# Altium integrated library Analog Devices Operational Amplifiers.IntLib: 2102 symbols (part 8 of 70)
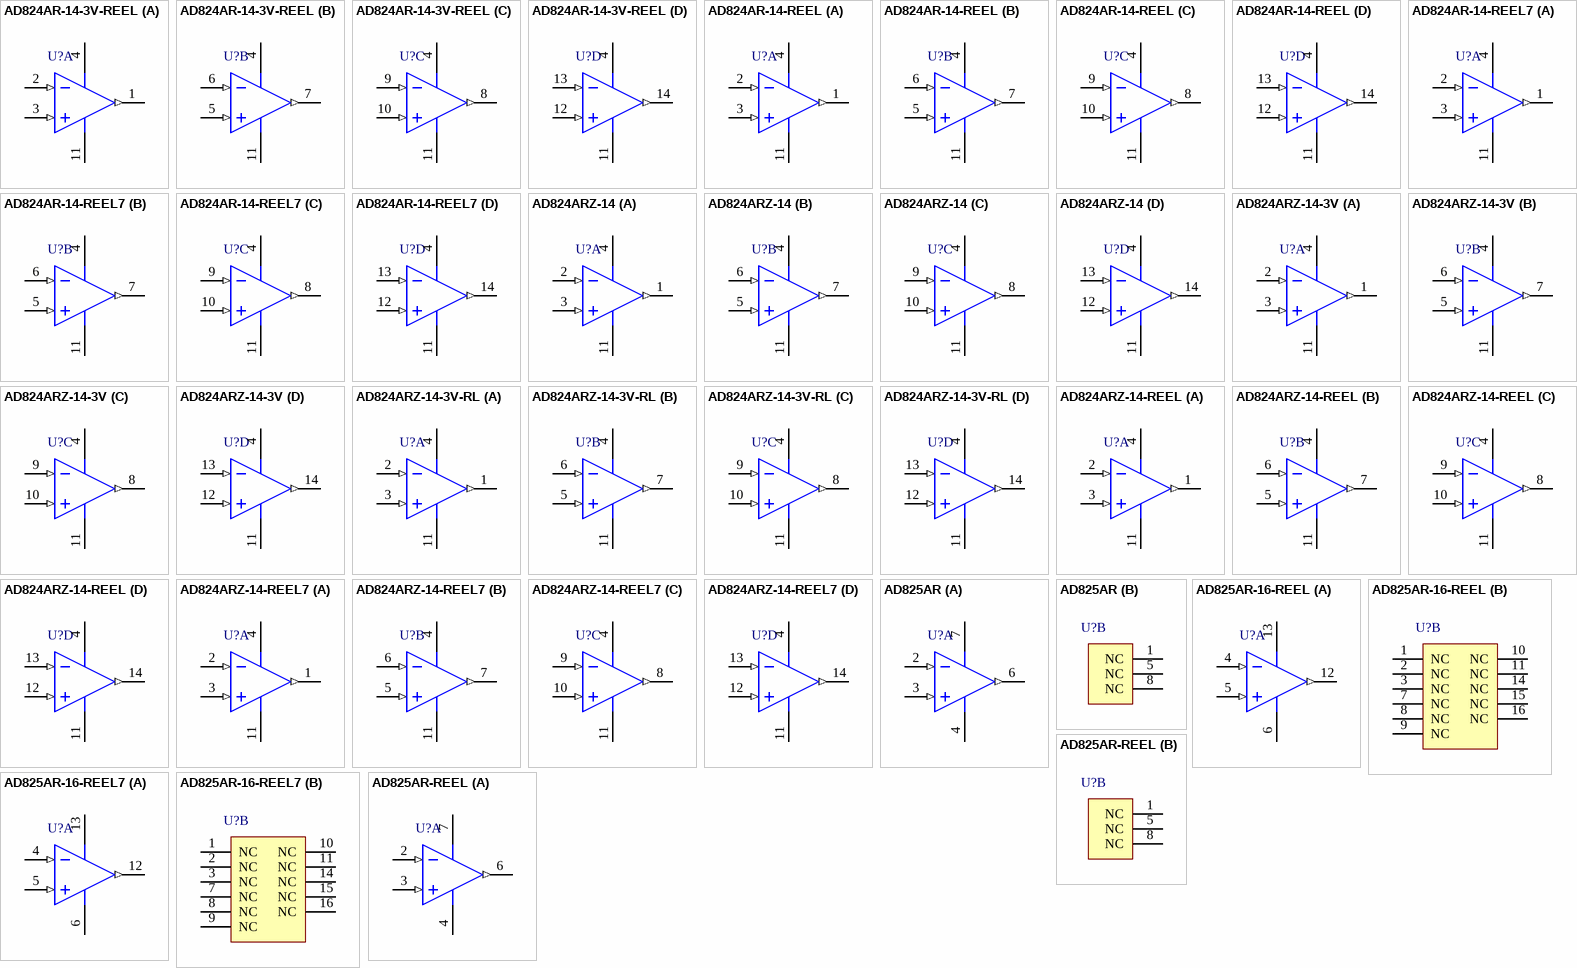
[diagram p121: symbols AD824AR-14-3V-REEL to AD825AR-REEL]

## AD824ARZ-14-REEL7
designator U?
Quad Channel Rail-to-Rail Operational Amplifier, 2 MHz BW, 2 V/us SR, Industrial, 14-pin SOIC (R-14), Reel; Generic Part Number: AD824; Manufacturer: Analog Devices; PartNumber: AD824ARZ-14-REEL7; Amplifiers Per Package: 4; Input Bias Current: 4pA; Input Offset Voltage: 500uV; Iq/Amp: 625uA; Slew Rate: 2V/us; Small Signal Bandwidth: 2MHz; V Span Max: 36V; V Span Min: 3V; DatasheetVersion: Rev. C; PackageVersion: 060606-A; PackageReference: R-14; PackageDescription: 14-Pin Standard Small Outline Package, Body 8.65 x 3.9 mm, Pitch 1.27 mm; Supplier 1: Digi-Key; Supplier Part Number 1: AD824ARZ-14-REEL7-ND; Supplier 2: Newark; Supplier Part Number 2: 59K6519; Mounting Technology: Surface Mount; Code_JEDEC: MS-012-AB; ComponentLink1Description: Manufacturer URL; ComponentLink1URL: http://www.analog.com/en/index.html; ComponentLink2Description: Datasheet; ComponentLink2URL: http://www.analog.com/static/imported-files/data_sheets/AD824.pdf; ComponentLink3Description: Package Specification; ComponentLink3URL: http://www.analog.com/static/imported-files/packages/PKG_PDF/SOIC_Narrow%20(R)/R_14.pdf
footprint ADI-R-14_N (SOIC, 14-Leads, Body 8.65x3.9mm, Pitch 1.27mm, IPC Medium Density)
footprint ADI-R-14_L (SOIC, 14-Leads, Body 8.65x3.9mm, Pitch 1.27mm, IPC High Density)
footprint ADI-R-14_M (SOIC, 14-Leads, Body 8.65x3.9mm, Pitch 1.27mm, IPC Low Density)
pins on every part: 4 +V (power), 11 -V (power)
part A pins: 1 OUT A (out), 2 -IN A (in), 3 +IN A (in)
part B pins: 5 +IN B (in), 6 -IN B (in), 7 OUT B (out)
part C pins: 8 OUT C (out), 9 -IN C (in), 10 +IN C (in)
part D pins: 12 +IN D (in), 13 -IN D (in), 14 OUT D (out)

## AD825AR
designator U?
Single Channel Low Distortion Operational Amplifier, 46 MHz BW, 140 V/us SR, Industrial, 8-pin SOIC (R-8), Tube; Generic Part Number: AD825; Manufacturer: Analog Devices; PartNumber: AD825AR; Amplifiers Per Package: 1; Input Bias Current: 10pA; Input Offset Voltage: 1mV; Iq/Amp: 7.2mA; Small Signal Bandwidth: 46MHz; V Span Max: 36V; V Span Min: 10V; DatasheetVersion: Rev. F; PackageVersion: 060506-A; PackageReference: R-8; PackageDescription: 8-Pin Standard Small Outline Package, Body 3.9 x 4.9 mm, Pitch 1.27 mm; Supplier 1: Digi-Key; Supplier Part Number 1: AD825AR-ND; Packing: Tube; Slew Rate: 140V/us; Mounting Technology: Surface Mount; Code_JEDEC: MS-012-AA; ComponentLink1Description: Manufacturer URL; ComponentLink1URL: http://www.analog.com/en/index.html; ComponentLink2Description: Datasheet; ComponentLink2URL: http://www.analog.com/static/imported-files/data_sheets/AD825.pdf; ComponentLink3Description: Package Specification; ComponentLink3URL: http://www.analog.com/static/imported-files/packages/PKG_PDF/SOIC_Narrow%20(R)/R_8.pdf
footprint ADI-R-8_N (SOIC, 8-Leads, Body 4.9x3.9mm, Pitch 1.27mm, IPC Medium Density)
footprint ADI-R-8_L (SOIC, 8-Leads, Body 4.9x3.9mm, Pitch 1.27mm, IPC High Density)
footprint ADI-R-8_M (SOIC, 8-Leads, Body 4.9x3.9mm, Pitch 1.27mm, IPC Low Density)
part A pins: 2 -IN (in), 3 +IN (in), 4 -VS (power), 6 OUT (out), 7 +VS (power)
part B pins: 1 NC, 5 NC, 8 NC

## AD825AR-16-REEL
designator U?
Single Channel Low Distortion Operational Amplifier, 46 MHz BW, 140 V/us SR, Industrial, 16-pin SOIC (RW-16), Reel; Generic Part Number: AD825; Manufacturer: Analog Devices; PartNumber: AD825AR-16-REEL; Amplifiers Per Package: 1; Input Bias Current: 10pA; Input Offset Voltage: 1mV; Iq/Amp: 7.2mA; Small Signal Bandwidth: 46MHz; V Span Max: 36V; V Span Min: 10V; DatasheetVersion: Rev. F; PackageVersion: 032707-B; PackageReference: RW-16; PackageDescription: 16-Pin Standard Small Outline Package, Body 10.3 x 7.5 mm, Pitch 1.27 mm; Supplier 1: Digi-Key; Supplier Part Number 1: AD825AR-16-REEL-ND; Packing: Reel; Slew Rate: 140V/us; Mounting Technology: Surface Mount; Code_JEDEC: MS-013-AA; ComponentLink1Description: Manufacturer URL; ComponentLink1URL: http://www.analog.com/en/index.html; ComponentLink2Description: Datasheet; ComponentLink2URL: http://www.analog.com/static/imported-files/data_sheets/AD825.pdf; ComponentLink3Description: Package Specification; ComponentLink3URL: http://www.analog.com/static/imported-files/packages/PKG_PDF/SOIC_WIDE%20%28RW%29/RW_16.pdf
footprint ADI-RW-16_N (SOIC, 16-Leads, Body 10.3x7.5mm, Pitch 1.27mm,IPC Medium Density)
footprint ADI-RW-16_L (SOIC, 16-Leads, Body 10.3x7.5mm, Pitch 1.27mm, IPC High Density)
footprint ADI-RW-16_M (SOIC, 16-Leads, Body 10.3x7.5mm, Pitch 1.27mm, IPC Low Density)
part A pins: 4 -IN (in), 5 +IN (in), 6 -VS (power), 12 OUT (out), 13 +VS (power)
part B pins: 1 NC, 2 NC, 3 NC, 7 NC, 8 NC, 9 NC, 10 NC, 11 NC, 14 NC, 15 NC, 16 NC

## AD825AR-16-REEL7
designator U?
Single Channel Low Distortion Operational Amplifier, 46 MHz BW, 140 V/us SR, Industrial, 16-pin SOIC (RW-16), Reel; Generic Part Number: AD825; Manufacturer: Analog Devices; PartNumber: AD825AR-16-REEL7; Amplifiers Per Package: 1; Input Bias Current: 10pA; Input Offset Voltage: 1mV; Iq/Amp: 7.2mA; Small Signal Bandwidth: 46MHz; V Span Max: 36V; V Span Min: 10V; DatasheetVersion: Rev. F; PackageVersion: 032707-B; PackageReference: RW-16; PackageDescription: 16-Pin Standard Small Outline Package, Body 10.3 x 7.5 mm, Pitch 1.27 mm; Supplier 1: Digi-Key; Supplier Part Number 1: AD825AR-16-REEL7-ND; Packing: Reel; Slew Rate: 140V/us; Mounting Technology: Surface Mount; Code_JEDEC: MS-013-AA; ComponentLink1Description: Manufacturer URL; ComponentLink1URL: http://www.analog.com/en/index.html; ComponentLink2Description: Datasheet; ComponentLink2URL: http://www.analog.com/static/imported-files/data_sheets/AD825.pdf; ComponentLink3Description: Package Specification; ComponentLink3URL: http://www.analog.com/static/imported-files/packages/PKG_PDF/SOIC_WIDE%20%28RW%29/RW_16.pdf
footprint ADI-RW-16_N (SOIC, 16-Leads, Body 10.3x7.5mm, Pitch 1.27mm,IPC Medium Density)
footprint ADI-RW-16_L (SOIC, 16-Leads, Body 10.3x7.5mm, Pitch 1.27mm, IPC High Density)
footprint ADI-RW-16_M (SOIC, 16-Leads, Body 10.3x7.5mm, Pitch 1.27mm, IPC Low Density)
part A pins: 4 -IN (in), 5 +IN (in), 6 -VS (power), 12 OUT (out), 13 +VS (power)
part B pins: 1 NC, 2 NC, 3 NC, 7 NC, 8 NC, 9 NC, 10 NC, 11 NC, 14 NC, 15 NC, 16 NC

## AD825AR-REEL
designator U?
Single Channel Low Distortion Operational Amplifier, 46 MHz BW, 140 V/us SR, Industrial, 8-pin SOIC (R-8), Reel; Generic Part Number: AD825; Manufacturer: Analog Devices; PartNumber: AD825AR-REEL; Amplifiers Per Package: 1; Input Bias Current: 10pA; Input Offset Voltage: 1mV; Iq/Amp: 7.2mA; Small Signal Bandwidth: 46MHz; V Span Max: 36V; V Span Min: 10V; DatasheetVersion: Rev. F; PackageVersion: 060506-A; PackageReference: R-8; PackageDescription: 8-Pin Standard Small Outline Package, Body 3.9 x 4.9 mm, Pitch 1.27 mm; Supplier 1: Digi-Key; Supplier Part Number 1: AD825AR-REEL-ND; Supplier 2: Newark; Supplier Part Number 2: 09B6518; Packing: Reel; Slew Rate: 140V/us; Mounting Technology: Surface Mount; Code_JEDEC: MS-012-AA; ComponentLink1Description: Manufacturer URL; ComponentLink1URL: http://www.analog.com/en/index.html; ComponentLink2Description: Datasheet; ComponentLink2URL: http://www.analog.com/static/imported-files/data_sheets/AD825.pdf; ComponentLink3Description: Package Specification; ComponentLink3URL: http://www.analog.com/static/imported-files/packages/PKG_PDF/SOIC_Narrow%20(R)/R_8.pdf
footprint ADI-R-8_N (SOIC, 8-Leads, Body 4.9x3.9mm, Pitch 1.27mm, IPC Medium Density)
footprint ADI-R-8_L (SOIC, 8-Leads, Body 4.9x3.9mm, Pitch 1.27mm, IPC High Density)
footprint ADI-R-8_M (SOIC, 8-Leads, Body 4.9x3.9mm, Pitch 1.27mm, IPC Low Density)
part A pins: 2 -IN (in), 3 +IN (in), 4 -VS (power), 6 OUT (out), 7 +VS (power)
part B pins: 1 NC, 5 NC, 8 NC

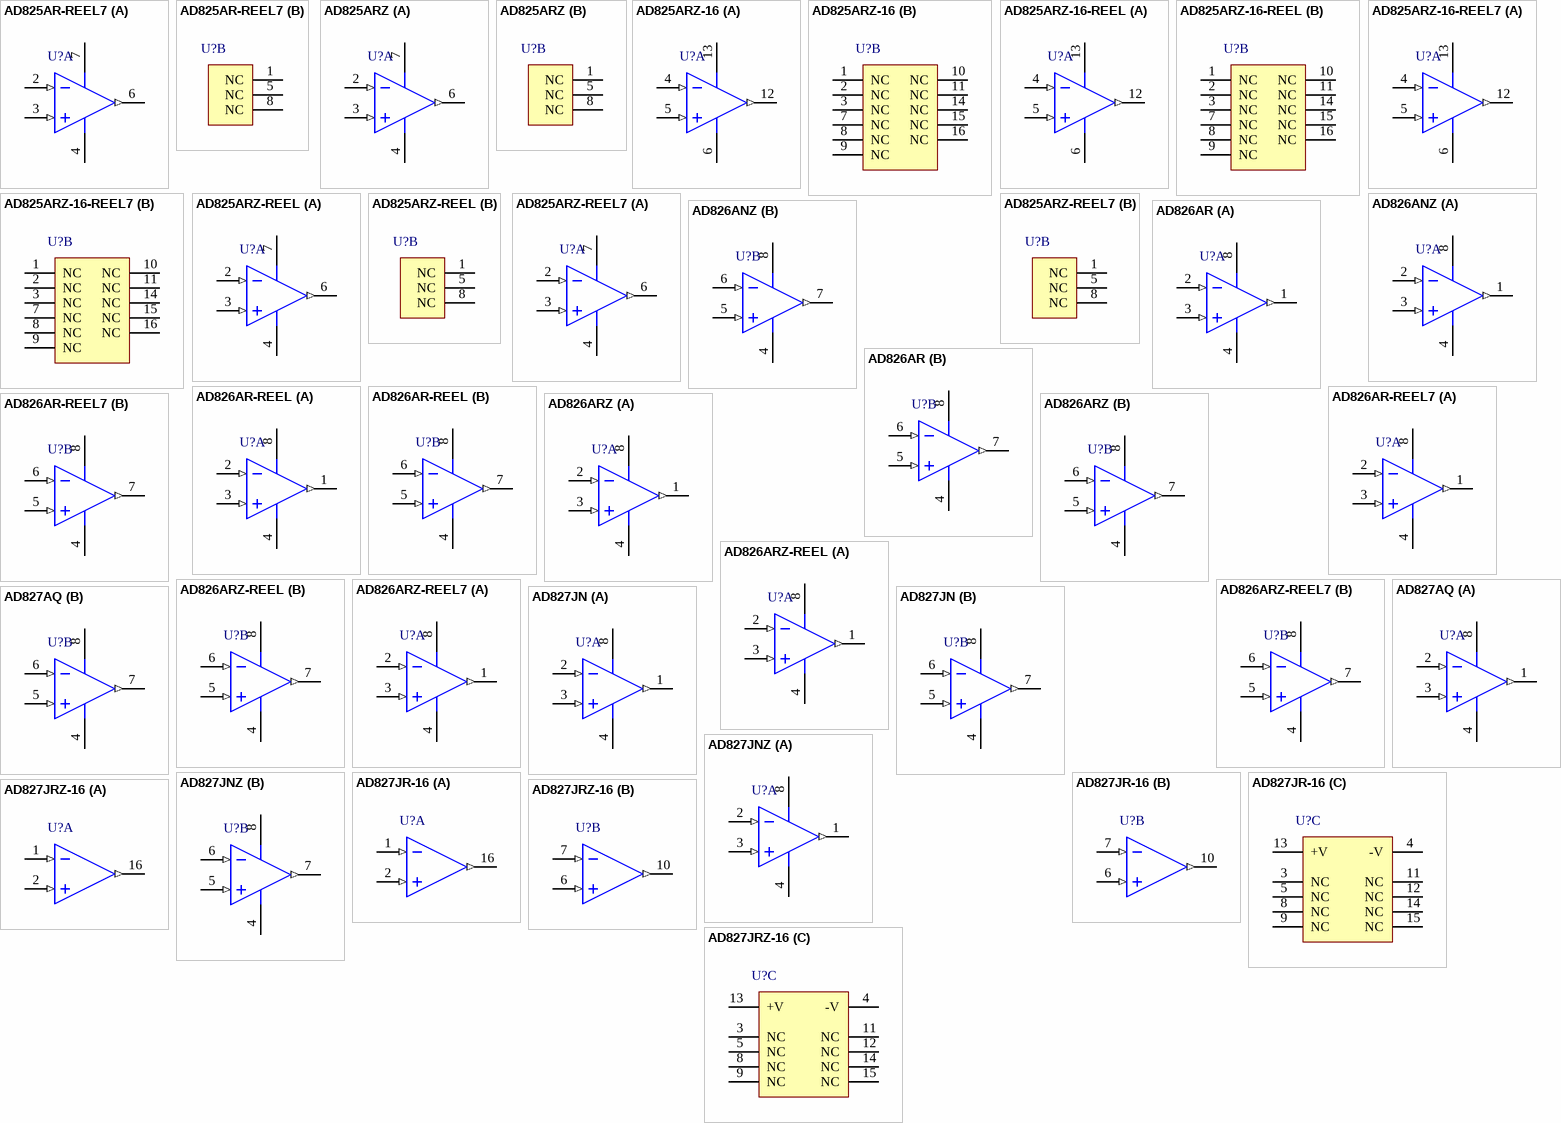
[diagram p12: symbols AD825AR-REEL7 to AD827JRZ-16]

## AD825AR-REEL7
designator U?
Single Channel Low Distortion Operational Amplifier, 46 MHz BW, 140 V/us SR, Industrial, 8-pin SOIC (R-8), Reel; Generic Part Number: AD825; Manufacturer: Analog Devices; PartNumber: AD825AR-REEL7; Amplifiers Per Package: 1; Input Bias Current: 10pA; Input Offset Voltage: 1mV; Iq/Amp: 7.2mA; Small Signal Bandwidth: 46MHz; V Span Max: 36V; V Span Min: 10V; DatasheetVersion: Rev. F; PackageVersion: 060506-A; PackageReference: R-8; PackageDescription: 8-Pin Standard Small Outline Package, Body 3.9 x 4.9 mm, Pitch 1.27 mm; Supplier 1: Digi-Key; Supplier Part Number 1: AD825AR-REEL7-ND; Supplier 2: Newark; Supplier Part Number 2: 09B6519; Packing: Reel; Slew Rate: 140V/us; Mounting Technology: Surface Mount; Code_JEDEC: MS-012-AA; ComponentLink1Description: Manufacturer URL; ComponentLink1URL: http://www.analog.com/en/index.html; ComponentLink2Description: Datasheet; ComponentLink2URL: http://www.analog.com/static/imported-files/data_sheets/AD825.pdf; ComponentLink3Description: Package Specification; ComponentLink3URL: http://www.analog.com/static/imported-files/packages/PKG_PDF/SOIC_Narrow%20(R)/R_8.pdf
footprint ADI-R-8_N (SOIC, 8-Leads, Body 4.9x3.9mm, Pitch 1.27mm, IPC Medium Density)
footprint ADI-R-8_L (SOIC, 8-Leads, Body 4.9x3.9mm, Pitch 1.27mm, IPC High Density)
footprint ADI-R-8_M (SOIC, 8-Leads, Body 4.9x3.9mm, Pitch 1.27mm, IPC Low Density)
part A pins: 2 -IN (in), 3 +IN (in), 4 -VS (power), 6 OUT (out), 7 +VS (power)
part B pins: 1 NC, 5 NC, 8 NC

## AD825ARZ
designator U?
Single Channel Low Distortion Operational Amplifier, 46 MHz BW, 140 V/us SR, Industrial, 8-pin SOIC (R-8), Tube; Generic Part Number: AD825; Manufacturer: Analog Devices; PartNumber: AD825ARZ; Amplifiers Per Package: 1; Input Bias Current: 10pA; Input Offset Voltage: 1mV; Iq/Amp: 7.2mA; Small Signal Bandwidth: 46MHz; V Span Max: 36V; V Span Min: 10V; DatasheetVersion: Rev. F; PackageVersion: 060506-A; PackageReference: R-8; PackageDescription: 8-Pin Standard Small Outline Package, Body 3.9 x 4.9 mm, Pitch 1.27 mm; Supplier 1: Digi-Key; Supplier Part Number 1: AD825ARZ-ND; Supplier 2: Farnell; Supplier Part Number 2: 9603735; Supplier 3: Newark; Supplier Part Number 3: 59K6528; Packing: Tube; Slew Rate: 140V/us; Mounting Technology: Surface Mount; Code_JEDEC: MS-012-AA; ComponentLink1Description: Manufacturer URL; ComponentLink1URL: http://www.analog.com/en/index.html; ComponentLink2Description: Datasheet; ComponentLink2URL: http://www.analog.com/static/imported-files/data_sheets/AD825.pdf; ComponentLink3Description: Package Specification; ComponentLink3URL: http://www.analog.com/static/imported-files/packages/PKG_PDF/SOIC_Narrow%20(R)/R_8.pdf
footprint ADI-R-8_N (SOIC, 8-Leads, Body 4.9x3.9mm, Pitch 1.27mm, IPC Medium Density)
footprint ADI-R-8_L (SOIC, 8-Leads, Body 4.9x3.9mm, Pitch 1.27mm, IPC High Density)
footprint ADI-R-8_M (SOIC, 8-Leads, Body 4.9x3.9mm, Pitch 1.27mm, IPC Low Density)
part A pins: 2 -IN (in), 3 +IN (in), 4 -VS (power), 6 OUT (out), 7 +VS (power)
part B pins: 1 NC, 5 NC, 8 NC

## AD825ARZ-16
designator U?
Single Channel Low Distortion Operational Amplifier, 46 MHz BW, 140 V/us SR, Industrial, 16-pin SOIC (RW-16), Tube; Generic Part Number: AD825; Manufacturer: Analog Devices; PartNumber: AD825ARZ-16; Amplifiers Per Package: 1; Input Bias Current: 10pA; Input Offset Voltage: 1mV; Iq/Amp: 7.2mA; Small Signal Bandwidth: 46MHz; V Span Max: 36V; V Span Min: 10V; DatasheetVersion: Rev. F; PackageVersion: 032707-B; PackageReference: RW-16; PackageDescription: 16-Pin Standard Small Outline Package, Body 10.3 x 7.5 mm, Pitch 1.27 mm; Supplier 1: Digi-Key; Supplier Part Number 1: AD825ARZ-16-ND; Packing: Tube; Slew Rate: 140V/us; Mounting Technology: Surface Mount; Code_JEDEC: MS-013-AA; ComponentLink1Description: Manufacturer URL; ComponentLink1URL: http://www.analog.com/en/index.html; ComponentLink2Description: Datasheet; ComponentLink2URL: http://www.analog.com/static/imported-files/data_sheets/AD825.pdf; ComponentLink3Description: Package Specification; ComponentLink3URL: http://www.analog.com/static/imported-files/packages/PKG_PDF/SOIC_WIDE%20%28RW%29/RW_16.pdf
footprint ADI-RW-16_N (SOIC, 16-Leads, Body 10.3x7.5mm, Pitch 1.27mm,IPC Medium Density)
footprint ADI-RW-16_L (SOIC, 16-Leads, Body 10.3x7.5mm, Pitch 1.27mm, IPC High Density)
footprint ADI-RW-16_M (SOIC, 16-Leads, Body 10.3x7.5mm, Pitch 1.27mm, IPC Low Density)
part A pins: 4 -IN (in), 5 +IN (in), 6 -VS (power), 12 OUT (out), 13 +VS (power)
part B pins: 1 NC, 2 NC, 3 NC, 7 NC, 8 NC, 9 NC, 10 NC, 11 NC, 14 NC, 15 NC, 16 NC

## AD825ARZ-16-REEL
designator U?
Single Channel Low Distortion Operational Amplifier, 46 MHz BW, 140 V/us SR, Industrial, 16-pin SOIC (RW-16), Reel; Generic Part Number: AD825; Manufacturer: Analog Devices; PartNumber: AD825ARZ-16-REEL; Amplifiers Per Package: 1; Input Bias Current: 10pA; Input Offset Voltage: 1mV; Iq/Amp: 7.2mA; Small Signal Bandwidth: 46MHz; V Span Max: 36V; V Span Min: 10V; DatasheetVersion: Rev. F; PackageVersion: 032707-B; PackageReference: RW-16; PackageDescription: 16-Pin Standard Small Outline Package, Body 10.3 x 7.5 mm, Pitch 1.27 mm; Supplier 1: Digi-Key; Supplier Part Number 1: AD825ARZ-16-REEL-ND; Packing: Reel; Slew Rate: 140V/us; Mounting Technology: Surface Mount; Code_JEDEC: MS-013-AA; ComponentLink1Description: Manufacturer URL; ComponentLink1URL: http://www.analog.com/en/index.html; ComponentLink2Description: Datasheet; ComponentLink2URL: http://www.analog.com/static/imported-files/data_sheets/AD825.pdf; ComponentLink3Description: Package Specification; ComponentLink3URL: http://www.analog.com/static/imported-files/packages/PKG_PDF/SOIC_WIDE%20%28RW%29/RW_16.pdf
footprint ADI-RW-16_N (SOIC, 16-Leads, Body 10.3x7.5mm, Pitch 1.27mm,IPC Medium Density)
footprint ADI-RW-16_L (SOIC, 16-Leads, Body 10.3x7.5mm, Pitch 1.27mm, IPC High Density)
footprint ADI-RW-16_M (SOIC, 16-Leads, Body 10.3x7.5mm, Pitch 1.27mm, IPC Low Density)
part A pins: 4 -IN (in), 5 +IN (in), 6 -VS (power), 12 OUT (out), 13 +VS (power)
part B pins: 1 NC, 2 NC, 3 NC, 7 NC, 8 NC, 9 NC, 10 NC, 11 NC, 14 NC, 15 NC, 16 NC

## AD825ARZ-16-REEL7
designator U?
Single Channel Low Distortion Operational Amplifier, 46 MHz BW, 140 V/us SR, Industrial, 16-pin SOIC (RW-16), Reel; Generic Part Number: AD825; Manufacturer: Analog Devices; PartNumber: AD825ARZ-16-REEL7; Amplifiers Per Package: 1; Input Bias Current: 10pA; Input Offset Voltage: 1mV; Iq/Amp: 7.2mA; Small Signal Bandwidth: 46MHz; V Span Max: 36V; V Span Min: 10V; DatasheetVersion: Rev. F; PackageVersion: 032707-B; PackageReference: RW-16; PackageDescription: 16-Pin Standard Small Outline Package, Body 10.3 x 7.5 mm, Pitch 1.27 mm; Supplier 1: Digi-Key; Supplier Part Number 1: AD825ARZ-16-REEL7-ND; Packing: Reel; Slew Rate: 140V/us; Mounting Technology: Surface Mount; Code_JEDEC: MS-013-AA; ComponentLink1Description: Manufacturer URL; ComponentLink1URL: http://www.analog.com/en/index.html; ComponentLink2Description: Datasheet; ComponentLink2URL: http://www.analog.com/static/imported-files/data_sheets/AD825.pdf; ComponentLink3Description: Package Specification; ComponentLink3URL: http://www.analog.com/static/imported-files/packages/PKG_PDF/SOIC_WIDE%20%28RW%29/RW_16.pdf
footprint ADI-RW-16_N (SOIC, 16-Leads, Body 10.3x7.5mm, Pitch 1.27mm,IPC Medium Density)
footprint ADI-RW-16_L (SOIC, 16-Leads, Body 10.3x7.5mm, Pitch 1.27mm, IPC High Density)
footprint ADI-RW-16_M (SOIC, 16-Leads, Body 10.3x7.5mm, Pitch 1.27mm, IPC Low Density)
part A pins: 4 -IN (in), 5 +IN (in), 6 -VS (power), 12 OUT (out), 13 +VS (power)
part B pins: 1 NC, 2 NC, 3 NC, 7 NC, 8 NC, 9 NC, 10 NC, 11 NC, 14 NC, 15 NC, 16 NC

## AD825ARZ-REEL
designator U?
Single Channel Low Distortion Operational Amplifier, 46 MHz BW, 140 V/us SR, Industrial, 8-pin SOIC (R-8), Reel; Generic Part Number: AD825; Manufacturer: Analog Devices; PartNumber: AD825ARZ-REEL; Amplifiers Per Package: 1; Input Bias Current: 10pA; Input Offset Voltage: 1mV; Iq/Amp: 7.2mA; Small Signal Bandwidth: 46MHz; V Span Max: 36V; V Span Min: 10V; DatasheetVersion: Rev. F; PackageVersion: 060506-A; PackageReference: R-8; PackageDescription: 8-Pin Standard Small Outline Package, Body 3.9 x 4.9 mm, Pitch 1.27 mm; Supplier 1: Digi-Key; Supplier Part Number 1: AD825ARZ-REEL-ND; Packing: Reel; Slew Rate: 140V/us; Mounting Technology: Surface Mount; Code_JEDEC: MS-012-AA; ComponentLink1Description: Manufacturer URL; ComponentLink1URL: http://www.analog.com/en/index.html; ComponentLink2Description: Datasheet; ComponentLink2URL: http://www.analog.com/static/imported-files/data_sheets/AD825.pdf; ComponentLink3Description: Package Specification; ComponentLink3URL: http://www.analog.com/static/imported-files/packages/PKG_PDF/SOIC_Narrow%20(R)/R_8.pdf
footprint ADI-R-8_N (SOIC, 8-Leads, Body 4.9x3.9mm, Pitch 1.27mm, IPC Medium Density)
footprint ADI-R-8_L (SOIC, 8-Leads, Body 4.9x3.9mm, Pitch 1.27mm, IPC High Density)
footprint ADI-R-8_M (SOIC, 8-Leads, Body 4.9x3.9mm, Pitch 1.27mm, IPC Low Density)
part A pins: 2 -IN (in), 3 +IN (in), 4 -VS (power), 6 OUT (out), 7 +VS (power)
part B pins: 1 NC, 5 NC, 8 NC

## AD825ARZ-REEL7
designator U?
Single Channel Low Distortion Operational Amplifier, 46 MHz BW, 140 V/us SR, Industrial, 8-pin SOIC (R-8), Reel; Generic Part Number: AD825; Manufacturer: Analog Devices; PartNumber: AD825ARZ-REEL7; Amplifiers Per Package: 1; Input Bias Current: 10pA; Input Offset Voltage: 1mV; Iq/Amp: 7.2mA; Small Signal Bandwidth: 46MHz; V Span Max: 36V; V Span Min: 10V; DatasheetVersion: Rev. F; PackageVersion: 060506-A; PackageReference: R-8; PackageDescription: 8-Pin Standard Small Outline Package, Body 3.9 x 4.9 mm, Pitch 1.27 mm; Supplier 1: Digi-Key; Supplier Part Number 1: AD825ARZ-REEL7-ND; Supplier 2: Newark; Supplier Part Number 2: 68H9063; Packing: Reel; Slew Rate: 140V/us; Mounting Technology: Surface Mount; Code_JEDEC: MS-012-AA; ComponentLink1Description: Manufacturer URL; ComponentLink1URL: http://www.analog.com/en/index.html; ComponentLink2Description: Datasheet; ComponentLink2URL: http://www.analog.com/static/imported-files/data_sheets/AD825.pdf; ComponentLink3Description: Package Specification; ComponentLink3URL: http://www.analog.com/static/imported-files/packages/PKG_PDF/SOIC_Narrow%20(R)/R_8.pdf
footprint ADI-R-8_N (SOIC, 8-Leads, Body 4.9x3.9mm, Pitch 1.27mm, IPC Medium Density)
footprint ADI-R-8_L (SOIC, 8-Leads, Body 4.9x3.9mm, Pitch 1.27mm, IPC High Density)
footprint ADI-R-8_M (SOIC, 8-Leads, Body 4.9x3.9mm, Pitch 1.27mm, IPC Low Density)
part A pins: 2 -IN (in), 3 +IN (in), 4 -VS (power), 6 OUT (out), 7 +VS (power)
part B pins: 1 NC, 5 NC, 8 NC

## AD826ANZ
designator U?
Double Channel Low Power Operational Amplifier, 50 MHz BW, 350 V/us SR, Industrial, 8-pin DIP (N-8), Tube; Generic Part Number: AD826; Manufacturer: Analog Devices; PartNumber: AD826ANZ; Amplifiers Per Package: 2; Input Bias Current: 3.3uA; Input Offset Voltage: 500uV; Iq/Amp: 7.5mA; Small Signal Bandwidth: 50MHz; V Span Max: 36V; V Span Min: 5V; DatasheetVersion: Rev. C; PackageVersion: 070606-A; PackageReference: N-8; PackageDescription: 8-Pin Plastic Dual In-Line Package, Row spacing 7.62 mm, Pitch 2.54 mm; Supplier 1: Digi-Key; Supplier Part Number 1: AD826ANZ-ND; Supplier 2: Farnell; Supplier Part Number 2: 1438583; Supplier 3: Newark; Supplier Part Number 3: 59K6530; Slew Rate: 350V/us; Mounting Technology: Through Hole; Code_JEDEC: MS-001; ComponentLink1Description: Manufacturer URL; ComponentLink1URL: http://www.analog.com/en/index.html; ComponentLink2Description: Datasheet; ComponentLink2URL: http://www.analog.com/static/imported-files/data_sheets/AD826.pdf; ComponentLink3Description: Package Specification; ComponentLink3URL: http:/www.analog.com/static/imported-files/packages/PKG_PDF/PDIP(N)/N_8.pdf
footprint ADI-N-8 (DIP, 8-Leads, Body 9.59x6.6mm, Pitch 2.54mm)
pins on every part: 4 -V (power), 8 +V (power)
part A pins: 1 OUT 1 (out), 2 -IN 1 (in), 3 +IN 1 (in)
part B pins: 5 +IN 2 (in), 6 -IN 2 (in), 7 OUT 2 (out)

## AD826AR
designator U?
Double Channel Low Power Operational Amplifier, 50 MHz BW, 350 V/us SR, Industrial, 8-pin SOIC (R-8), Tube; Generic Part Number: AD826; Manufacturer: Analog Devices; PartNumber: AD826AR; Amplifiers Per Package: 2; Input Bias Current: 3.3uA; Input Offset Voltage: 500uV; Iq/Amp: 7.5mA; Small Signal Bandwidth: 50MHz; V Span Max: 36V; V Span Min: 5V; DatasheetVersion: Rev. C; PackageVersion: 060506-A; PackageReference: R-8; PackageDescription: 8-Pin Standard Small Outline Package, Body 3.9 x 4.9 mm, Pitch 1.27 mm; Supplier 1: Digi-Key; Supplier Part Number 1: AD826AR-ND; Slew Rate: 350V/us; Mounting Technology: Surface Mount; Code_JEDEC: MS-012-AA; ComponentLink1Description: Manufacturer URL; ComponentLink1URL: http://www.analog.com/en/index.html; ComponentLink2Description: Datasheet; ComponentLink2URL: http://www.analog.com/static/imported-files/data_sheets/AD826.pdf; ComponentLink3Description: Package Specification; ComponentLink3URL: http://www.analog.com/static/imported-files/packages/PKG_PDF/SOIC_Narrow%20(R)/R_8.pdf
footprint ADI-R-8_N (SOIC, 8-Leads, Body 4.9x3.9mm, Pitch 1.27mm, IPC Medium Density)
footprint ADI-R-8_L (SOIC, 8-Leads, Body 4.9x3.9mm, Pitch 1.27mm, IPC High Density)
footprint ADI-R-8_M (SOIC, 8-Leads, Body 4.9x3.9mm, Pitch 1.27mm, IPC Low Density)
pins on every part: 4 -V (power), 8 +V (power)
part A pins: 1 OUT 1 (out), 2 -IN 1 (in), 3 +IN 1 (in)
part B pins: 5 +IN 2 (in), 6 -IN 2 (in), 7 OUT 2 (out)

## AD826AR-REEL
designator U?
Double Channel Low Power Operational Amplifier, 50 MHz BW, 350 V/us SR, Industrial, 8-pin SOIC (R-8), Reel; Generic Part Number: AD826; Manufacturer: Analog Devices; PartNumber: AD826AR-REEL; Amplifiers Per Package: 2; Input Bias Current: 3.3uA; Input Offset Voltage: 500uV; Iq/Amp: 7.5mA; Small Signal Bandwidth: 50MHz; V Span Max: 36V; V Span Min: 5V; DatasheetVersion: Rev. C; PackageVersion: 060506-A; PackageReference: R-8; PackageDescription: 8-Pin Standard Small Outline Package, Body 3.9 x 4.9 mm, Pitch 1.27 mm; Supplier 1: Digi-Key; Supplier Part Number 1: AD826AR-REEL-ND; Supplier 2: Newark; Supplier Part Number 2: 09B6520; Slew Rate: 350V/us; Mounting Technology: Surface Mount; Code_JEDEC: MS-012-AA; ComponentLink1Description: Manufacturer URL; ComponentLink1URL: http://www.analog.com/en/index.html; ComponentLink2Description: Datasheet; ComponentLink2URL: http://www.analog.com/static/imported-files/data_sheets/AD826.pdf; ComponentLink3Description: Package Specification; ComponentLink3URL: http://www.analog.com/static/imported-files/packages/PKG_PDF/SOIC_Narrow%20(R)/R_8.pdf
footprint ADI-R-8_N (SOIC, 8-Leads, Body 4.9x3.9mm, Pitch 1.27mm, IPC Medium Density)
footprint ADI-R-8_L (SOIC, 8-Leads, Body 4.9x3.9mm, Pitch 1.27mm, IPC High Density)
footprint ADI-R-8_M (SOIC, 8-Leads, Body 4.9x3.9mm, Pitch 1.27mm, IPC Low Density)
pins on every part: 4 -V (power), 8 +V (power)
part A pins: 1 OUT 1 (out), 2 -IN 1 (in), 3 +IN 1 (in)
part B pins: 5 +IN 2 (in), 6 -IN 2 (in), 7 OUT 2 (out)

## AD826AR-REEL7
designator U?
Double Channel Low Power Operational Amplifier, 50 MHz BW, 350 V/us SR, Industrial, 8-pin SOIC (R-8), Reel; Generic Part Number: AD826; Manufacturer: Analog Devices; PartNumber: AD826AR-REEL7; Amplifiers Per Package: 2; Input Bias Current: 3.3uA; Input Offset Voltage: 500uV; Iq/Amp: 7.5mA; Small Signal Bandwidth: 50MHz; V Span Max: 36V; V Span Min: 5V; DatasheetVersion: Rev. C; PackageVersion: 060506-A; PackageReference: R-8; PackageDescription: 8-Pin Standard Small Outline Package, Body 3.9 x 4.9 mm, Pitch 1.27 mm; Supplier 1: Digi-Key; Supplier Part Number 1: AD826AR-REEL7TR-ND; Supplier 2: Digi-Key; Supplier Part Number 2: AD826AR-REEL7CT-ND; Supplier 3: Digi-Key; Supplier Part Number 3: AD826AR-REEL7DKR-ND; Supplier 4: Newark; Supplier Part Number 4: 09B6521; Slew Rate: 350V/us; Mounting Technology: Surface Mount; Code_JEDEC: MS-012-AA; ComponentLink1Description: Manufacturer URL; ComponentLink1URL: http://www.analog.com/en/index.html; ComponentLink2Description: Datasheet; ComponentLink2URL: http://www.analog.com/static/imported-files/data_sheets/AD826.pdf; ComponentLink3Description: Package Specification; ComponentLink3URL: http://www.analog.com/static/imported-files/packages/PKG_PDF/SOIC_Narrow%20(R)/R_8.pdf
footprint ADI-R-8_N (SOIC, 8-Leads, Body 4.9x3.9mm, Pitch 1.27mm, IPC Medium Density)
footprint ADI-R-8_L (SOIC, 8-Leads, Body 4.9x3.9mm, Pitch 1.27mm, IPC High Density)
footprint ADI-R-8_M (SOIC, 8-Leads, Body 4.9x3.9mm, Pitch 1.27mm, IPC Low Density)
pins on every part: 4 -V (power), 8 +V (power)
part A pins: 1 OUT 1 (out), 2 -IN 1 (in), 3 +IN 1 (in)
part B pins: 5 +IN 2 (in), 6 -IN 2 (in), 7 OUT 2 (out)

## AD826ARZ
designator U?
Double Channel Low Power Operational Amplifier, 50 MHz BW, 350 V/us SR, Industrial, 8-pin SOIC (R-8), Tube; Generic Part Number: AD826; Manufacturer: Analog Devices; PartNumber: AD826ARZ; Amplifiers Per Package: 2; Input Bias Current: 3.3uA; Input Offset Voltage: 500uV; Iq/Amp: 7.5mA; Small Signal Bandwidth: 50MHz; V Span Max: 36V; V Span Min: 5V; DatasheetVersion: Rev. C; PackageVersion: 060506-A; PackageReference: R-8; PackageDescription: 8-Pin Standard Small Outline Package, Body 3.9 x 4.9 mm, Pitch 1.27 mm; Supplier 1: Digi-Key; Supplier Part Number 1: AD826ARZ-ND; Supplier 2: Farnell; Supplier Part Number 2: 1651291; Supplier 3: Farnell; Supplier Part Number 3: 1311619; Supplier 4: Newark; Supplier Part Number 4: 82H2995; Slew Rate: 350V/us; Mounting Technology: Surface Mount; Code_JEDEC: MS-012-AA; ComponentLink1Description: Manufacturer URL; ComponentLink1URL: http://www.analog.com/en/index.html; ComponentLink2Description: Datasheet; ComponentLink2URL: http://www.analog.com/static/imported-files/data_sheets/AD826.pdf; ComponentLink3Description: Package Specification; ComponentLink3URL: http://www.analog.com/static/imported-files/packages/PKG_PDF/SOIC_Narrow%20(R)/R_8.pdf
footprint ADI-R-8_N (SOIC, 8-Leads, Body 4.9x3.9mm, Pitch 1.27mm, IPC Medium Density)
footprint ADI-R-8_L (SOIC, 8-Leads, Body 4.9x3.9mm, Pitch 1.27mm, IPC High Density)
footprint ADI-R-8_M (SOIC, 8-Leads, Body 4.9x3.9mm, Pitch 1.27mm, IPC Low Density)
pins on every part: 4 -V (power), 8 +V (power)
part A pins: 1 OUT 1 (out), 2 -IN 1 (in), 3 +IN 1 (in)
part B pins: 5 +IN 2 (in), 6 -IN 2 (in), 7 OUT 2 (out)

## AD826ARZ-REEL
designator U?
Double Channel Low Power Operational Amplifier, 50 MHz BW, 350 V/us SR, Industrial, 8-pin SOIC (R-8), Reel; Generic Part Number: AD826; Manufacturer: Analog Devices; PartNumber: AD826ARZ-REEL; Amplifiers Per Package: 2; Input Bias Current: 3.3uA; Input Offset Voltage: 500uV; Iq/Amp: 7.5mA; Small Signal Bandwidth: 50MHz; V Span Max: 36V; V Span Min: 5V; DatasheetVersion: Rev. C; PackageVersion: 060506-A; PackageReference: R-8; PackageDescription: 8-Pin Standard Small Outline Package, Body 3.9 x 4.9 mm, Pitch 1.27 mm; Supplier 1: Digi-Key; Supplier Part Number 1: AD826ARZ-REEL-ND; Supplier 2: Newark; Supplier Part Number 2: 82H2996; Slew Rate: 350V/us; Mounting Technology: Surface Mount; Code_JEDEC: MS-012-AA; ComponentLink1Description: Manufacturer URL; ComponentLink1URL: http://www.analog.com/en/index.html; ComponentLink2Description: Datasheet; ComponentLink2URL: http://www.analog.com/static/imported-files/data_sheets/AD826.pdf; ComponentLink3Description: Package Specification; ComponentLink3URL: http://www.analog.com/static/imported-files/packages/PKG_PDF/SOIC_Narrow%20(R)/R_8.pdf
footprint ADI-R-8_N (SOIC, 8-Leads, Body 4.9x3.9mm, Pitch 1.27mm, IPC Medium Density)
footprint ADI-R-8_L (SOIC, 8-Leads, Body 4.9x3.9mm, Pitch 1.27mm, IPC High Density)
footprint ADI-R-8_M (SOIC, 8-Leads, Body 4.9x3.9mm, Pitch 1.27mm, IPC Low Density)
pins on every part: 4 -V (power), 8 +V (power)
part A pins: 1 OUT 1 (out), 2 -IN 1 (in), 3 +IN 1 (in)
part B pins: 5 +IN 2 (in), 6 -IN 2 (in), 7 OUT 2 (out)

## AD826ARZ-REEL7
designator U?
Double Channel Low Power Operational Amplifier, 50 MHz BW, 350 V/us SR, Industrial, 8-pin SOIC (R-8), Reel; Generic Part Number: AD826; Manufacturer: Analog Devices; PartNumber: AD826ARZ-REEL7; Amplifiers Per Package: 2; Input Bias Current: 3.3uA; Input Offset Voltage: 500uV; Iq/Amp: 7.5mA; Small Signal Bandwidth: 50MHz; V Span Max: 36V; V Span Min: 5V; DatasheetVersion: Rev. C; PackageVersion: 060506-A; PackageReference: R-8; PackageDescription: 8-Pin Standard Small Outline Package, Body 3.9 x 4.9 mm, Pitch 1.27 mm; Supplier 1: Digi-Key; Supplier Part Number 1: AD826ARZ-REEL7TR-ND; Supplier 2: Digi-Key; Supplier Part Number 2: AD826ARZ-REEL7CT-ND; Supplier 3: Digi-Key; Supplier Part Number 3: AD826ARZ-REEL7DKR-ND; Supplier 4: Newark; Supplier Part Number 4: 82H2997; Slew Rate: 350V/us; Mounting Technology: Surface Mount; Code_JEDEC: MS-012-AA; ComponentLink1Description: Manufacturer URL; ComponentLink1URL: http://www.analog.com/en/index.html; ComponentLink2Description: Datasheet; ComponentLink2URL: http://www.analog.com/static/imported-files/data_sheets/AD826.pdf; ComponentLink3Description: Package Specification; ComponentLink3URL: http://www.analog.com/static/imported-files/packages/PKG_PDF/SOIC_Narrow%20(R)/R_8.pdf
footprint ADI-R-8_N (SOIC, 8-Leads, Body 4.9x3.9mm, Pitch 1.27mm, IPC Medium Density)
footprint ADI-R-8_L (SOIC, 8-Leads, Body 4.9x3.9mm, Pitch 1.27mm, IPC High Density)
footprint ADI-R-8_M (SOIC, 8-Leads, Body 4.9x3.9mm, Pitch 1.27mm, IPC Low Density)
pins on every part: 4 -V (power), 8 +V (power)
part A pins: 1 OUT 1 (out), 2 -IN 1 (in), 3 +IN 1 (in)
part B pins: 5 +IN 2 (in), 6 -IN 2 (in), 7 OUT 2 (out)

## AD827AQ
designator U?
Double Channel Low Power Operational Amplifier, 50 MHz BW, 300 V/us SR, Industrial, 8-pin DIP (Q-8), Tube; Generic Part Number: AD827; Manufacturer: Analog Devices; PartNumber: AD827AQ; Amplifiers Per Package: 2; Input Bias Current: 3.3uA; Input Offset Voltage: 500uV; Iq/Amp: 6.75mA; Small Signal Bandwidth: 50MHz; V Span Max: 36V; V Span Min: 9V; DatasheetVersion: Rev. C; PackageReference: Q-8; PackageDescription: 8-Pin Ceramic Dual In-Line Package, Row spacing 7.62 mm, Pitch 2.54 mm; Supplier 1: Digi-Key; Supplier Part Number 1: AD827AQ-ND; Supplier 2: Newark; Supplier Part Number 2: 09B6522; Packing: Tube; Slew Rate: 300V/us; Mounting Technology: Through Hole; ComponentLink1Description: Manufacturer URL; ComponentLink1URL: http://www.analog.com/en/index.html; ComponentLink2Description: Datasheet; ComponentLink2URL: http://www.analog.com/static/imported-files/data_sheets/AD827.pdf; ComponentLink3Description: Package Specification; ComponentLink3URL: http://www.analog.com/static/imported-files/packages/3925655241313314758Q_8.pdf
footprint ADI-Q-8 (DIP, 8-Leads, Body 10.29x6.73mm, Pitch 2.54mm)
pins on every part: 4 -V (power), 8 +V (power)
part A pins: 1 OUT 1 (out), 2 -IN 1 (in), 3 +IN 1 (in)
part B pins: 5 +IN 2 (in), 6 -IN 2 (in), 7 OUT 2 (out)

## AD827JN
designator U?
Double Channel Low Power Operational Amplifier, 50 MHz BW, 300 V/us SR, Commercial, 8-pin DIP (N-8), Tube; Generic Part Number: AD827; Manufacturer: Analog Devices; PartNumber: AD827JN; Amplifiers Per Package: 2; Input Bias Current: 3.3uA; Input Offset Voltage: 500uV; Iq/Amp: 6.75mA; Small Signal Bandwidth: 50MHz; V Span Max: 36V; V Span Min: 9V; DatasheetVersion: Rev. C; PackageVersion: 070606-A; PackageReference: N-8; PackageDescription: 8-Pin Plastic Dual In-Line Package, Row spacing 7.62 mm, Pitch 2.54 mm; Supplier 1: Digi-Key; Supplier Part Number 1: AD827JN-ND; Packing: Tube; Slew Rate: 300V/us; Mounting Technology: Through Hole; Code_JEDEC: MS-001; ComponentLink1Description: Manufacturer URL; ComponentLink1URL: http://www.analog.com/en/index.html; ComponentLink2Description: Datasheet; ComponentLink2URL: http://www.analog.com/static/imported-files/data_sheets/AD827.pdf; ComponentLink3Description: Package Specification; ComponentLink3URL: http:/www.analog.com/static/imported-files/packages/PKG_PDF/PDIP(N)/N_8.pdf
footprint ADI-N-8 (DIP, 8-Leads, Body 9.59x6.6mm, Pitch 2.54mm)
pins on every part: 4 -V (power), 8 +V (power)
part A pins: 1 OUT 1 (out), 2 -IN 1 (in), 3 +IN 1 (in)
part B pins: 5 +IN 2 (in), 6 -IN 2 (in), 7 OUT 2 (out)

## AD827JNZ
designator U?
Double Channel Low Power Operational Amplifier, 50 MHz BW, 300 V/us SR, Commercial, 8-pin DIP (N-8), Tube; Generic Part Number: AD827; Manufacturer: Analog Devices; PartNumber: AD827JNZ; Amplifiers Per Package: 2; Input Bias Current: 3.3uA; Input Offset Voltage: 500uV; Iq/Amp: 6.75mA; Small Signal Bandwidth: 50MHz; V Span Max: 36V; V Span Min: 9V; DatasheetVersion: Rev. C; PackageVersion: 070606-A; PackageReference: N-8; PackageDescription: 8-Pin Plastic Dual In-Line Package, Row spacing 7.62 mm, Pitch 2.54 mm; Supplier 1: Digi-Key; Supplier Part Number 1: AD827JNZ-ND; Supplier 2: Farnell; Supplier Part Number 2: 9603662; Supplier 3: Newark; Supplier Part Number 3: 19M0948; Packing: Tube; Slew Rate: 300V/us; Mounting Technology: Through Hole; Code_JEDEC: MS-001; ComponentLink1Description: Manufacturer URL; ComponentLink1URL: http://www.analog.com/en/index.html; ComponentLink2Description: Datasheet; ComponentLink2URL: http://www.analog.com/static/imported-files/data_sheets/AD827.pdf; ComponentLink3Description: Package Specification; ComponentLink3URL: http:/www.analog.com/static/imported-files/packages/PKG_PDF/PDIP(N)/N_8.pdf
footprint ADI-N-8 (DIP, 8-Leads, Body 9.59x6.6mm, Pitch 2.54mm)
pins on every part: 4 -V (power), 8 +V (power)
part A pins: 1 OUT 1 (out), 2 -IN 1 (in), 3 +IN 1 (in)
part B pins: 5 +IN 2 (in), 6 -IN 2 (in), 7 OUT 2 (out)

## AD827JR-16
designator U?
Double Channel Low Power Operational Amplifier, 50 MHz BW, 300 V/us SR, Commercial, 16-pin SOIC (RW-16), Tube; Generic Part Number: AD827; Manufacturer: Analog Devices; PartNumber: AD827JR-16; Amplifiers Per Package: 2; Input Bias Current: 3.3uA; Input Offset Voltage: 500uV; Iq/Amp: 6.75mA; Small Signal Bandwidth: 50MHz; V Span Max: 36V; V Span Min: 9V; DatasheetVersion: Rev. C; PackageVersion: 032707-B; PackageReference: RW-16; PackageDescription: 16-Pin Standard Small Outline Package, Body 10.3 x 7.5 mm, Pitch 1.27 mm; Supplier 1: Digi-Key; Supplier Part Number 1: AD827JR-16-ND; Supplier 2: Newark; Supplier Part Number 2: 05F7691; Packing: Tube; Slew Rate: 300V/us; Mounting Technology: Surface Mount; Code_JEDEC: MS-013-AA; ComponentLink1Description: Manufacturer URL; ComponentLink1URL: http://www.analog.com/en/index.html; ComponentLink2Description: Datasheet; ComponentLink2URL: http://www.analog.com/static/imported-files/data_sheets/AD827.pdf; ComponentLink3Description: Package Specification; ComponentLink3URL: http://www.analog.com/static/imported-files/packages/PKG_PDF/SOIC_WIDE%20%28RW%29/RW_16.pdf
footprint ADI-RW-16_N (SOIC, 16-Leads, Body 10.3x7.5mm, Pitch 1.27mm,IPC Medium Density)
footprint ADI-RW-16_L (SOIC, 16-Leads, Body 10.3x7.5mm, Pitch 1.27mm, IPC High Density)
footprint ADI-RW-16_M (SOIC, 16-Leads, Body 10.3x7.5mm, Pitch 1.27mm, IPC Low Density)
part A pins: 1 -IN 1 (in), 2 +IN 1 (in), 16 OUT 1 (out)
part B pins: 6 +IN 2 (in), 7 -IN 2 (in), 10 OUT 2 (out)
part C pins: 3 NC, 4 -V (power), 5 NC, 8 NC, 9 NC, 11 NC, 12 NC, 13 +V (power), 14 NC, 15 NC

## AD827JRZ-16
designator U?
Double Channel Low Power Operational Amplifier, 50 MHz BW, 300 V/us SR, Commercial, 16-pin SOIC (RW-16), Tube; Generic Part Number: AD827; Manufacturer: Analog Devices; PartNumber: AD827JRZ-16; Amplifiers Per Package: 2; Input Bias Current: 3.3uA; Input Offset Voltage: 500uV; Iq/Amp: 6.75mA; Small Signal Bandwidth: 50MHz; V Span Max: 36V; V Span Min: 9V; DatasheetVersion: Rev. C; PackageVersion: 032707-B; PackageReference: RW-16; PackageDescription: 16-Pin Standard Small Outline Package, Body 10.3 x 7.5 mm, Pitch 1.27 mm; Supplier 1: Digi-Key; Supplier Part Number 1: AD827JRZ-16-ND; Supplier 2: Newark; Supplier Part Number 2: 59K6532; Packing: Tube; Slew Rate: 300V/us; Mounting Technology: Surface Mount; Code_JEDEC: MS-013-AA; ComponentLink1Description: Manufacturer URL; ComponentLink1URL: http://www.analog.com/en/index.html; ComponentLink2Description: Datasheet; ComponentLink2URL: http://www.analog.com/static/imported-files/data_sheets/AD827.pdf; ComponentLink3Description: Package Specification; ComponentLink3URL: http://www.analog.com/static/imported-files/packages/PKG_PDF/SOIC_WIDE%20%28RW%29/RW_16.pdf
footprint ADI-RW-16_N (SOIC, 16-Leads, Body 10.3x7.5mm, Pitch 1.27mm,IPC Medium Density)
footprint ADI-RW-16_L (SOIC, 16-Leads, Body 10.3x7.5mm, Pitch 1.27mm, IPC High Density)
footprint ADI-RW-16_M (SOIC, 16-Leads, Body 10.3x7.5mm, Pitch 1.27mm, IPC Low Density)
part A pins: 1 -IN 1 (in), 2 +IN 1 (in), 16 OUT 1 (out)
part B pins: 6 +IN 2 (in), 7 -IN 2 (in), 10 OUT 2 (out)
part C pins: 3 NC, 4 -V (power), 5 NC, 8 NC, 9 NC, 11 NC, 12 NC, 13 +V (power), 14 NC, 15 NC

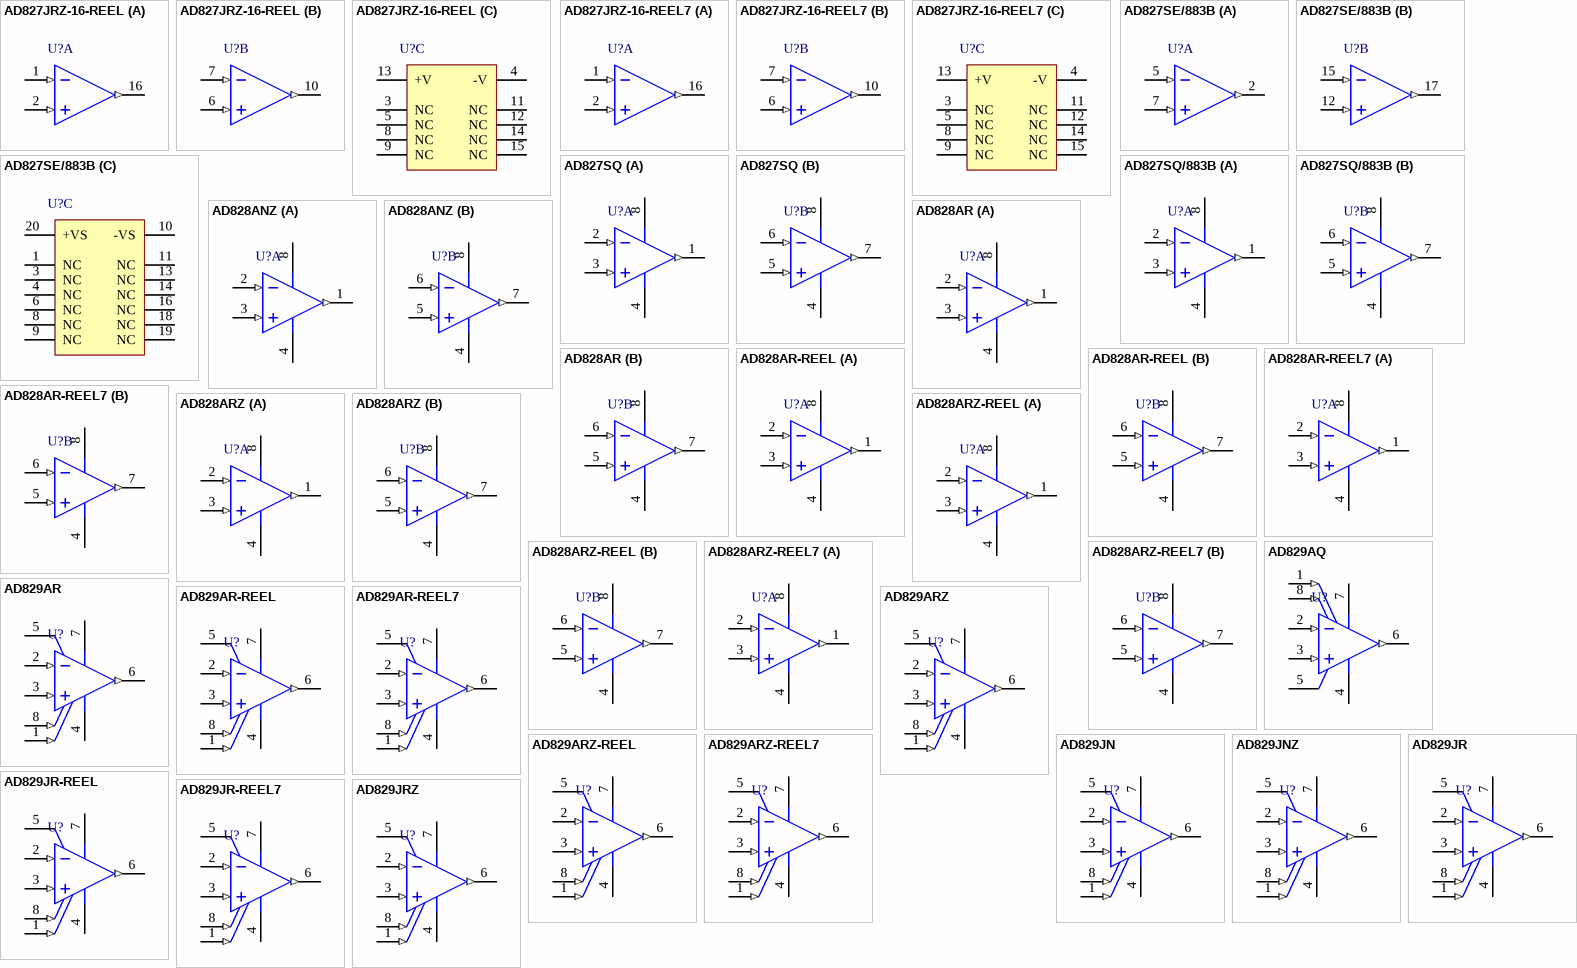
[diagram p13: symbols AD827JRZ-16-REEL to AD829JRZ]

## AD827JRZ-16-REEL
designator U?
Double Channel Low Power Operational Amplifier, 50 MHz BW, 300 V/us SR, Commercial, 16-pin SOIC (RW-16), Reel; Generic Part Number: AD827; Manufacturer: Analog Devices; PartNumber: AD827JRZ-16-REEL; Amplifiers Per Package: 2; Input Bias Current: 3.3uA; Input Offset Voltage: 500uV; Iq/Amp: 6.75mA; Small Signal Bandwidth: 50MHz; V Span Max: 36V; V Span Min: 9V; DatasheetVersion: Rev. C; PackageVersion: 032707-B; PackageReference: RW-16; PackageDescription: 16-Pin Standard Small Outline Package, Body 10.3 x 7.5 mm, Pitch 1.27 mm; Supplier 1: Digi-Key; Supplier Part Number 1: AD827JRZ-16-REEL-ND; Supplier 2: Newark; Supplier Part Number 2: 59K6533; Packing: Reel; Slew Rate: 300V/us; Mounting Technology: Surface Mount; Code_JEDEC: MS-013-AA; ComponentLink1Description: Manufacturer URL; ComponentLink1URL: http://www.analog.com/en/index.html; ComponentLink2Description: Datasheet; ComponentLink2URL: http://www.analog.com/static/imported-files/data_sheets/AD827.pdf; ComponentLink3Description: Package Specification; ComponentLink3URL: http://www.analog.com/static/imported-files/packages/PKG_PDF/SOIC_WIDE%20%28RW%29/RW_16.pdf
footprint ADI-RW-16_N (SOIC, 16-Leads, Body 10.3x7.5mm, Pitch 1.27mm,IPC Medium Density)
footprint ADI-RW-16_L (SOIC, 16-Leads, Body 10.3x7.5mm, Pitch 1.27mm, IPC High Density)
footprint ADI-RW-16_M (SOIC, 16-Leads, Body 10.3x7.5mm, Pitch 1.27mm, IPC Low Density)
part A pins: 1 -IN 1 (in), 2 +IN 1 (in), 16 OUT 1 (out)
part B pins: 6 +IN 2 (in), 7 -IN 2 (in), 10 OUT 2 (out)
part C pins: 3 NC, 4 -V (power), 5 NC, 8 NC, 9 NC, 11 NC, 12 NC, 13 +V (power), 14 NC, 15 NC

## AD827JRZ-16-REEL7
designator U?
Double Channel Low Power Operational Amplifier, 50 MHz BW, 300 V/us SR, Commercial, 16-pin SOIC (RW-16), Reel; Generic Part Number: AD827; Manufacturer: Analog Devices; PartNumber: AD827JRZ-16-REEL7; Amplifiers Per Package: 2; Input Bias Current: 3.3uA; Input Offset Voltage: 500uV; Iq/Amp: 6.75mA; Small Signal Bandwidth: 50MHz; V Span Max: 36V; V Span Min: 9V; DatasheetVersion: Rev. C; PackageVersion: 032707-B; PackageReference: RW-16; PackageDescription: 16-Pin Standard Small Outline Package, Body 10.3 x 7.5 mm, Pitch 1.27 mm; Supplier 1: Digi-Key; Supplier Part Number 1: AD827JRZ-16-REEL7-ND; Supplier 2: Newark; Supplier Part Number 2: 59K6534; Packing: Reel; Slew Rate: 300V/us; Mounting Technology: Surface Mount; Code_JEDEC: MS-013-AA; ComponentLink1Description: Manufacturer URL; ComponentLink1URL: http://www.analog.com/en/index.html; ComponentLink2Description: Datasheet; ComponentLink2URL: http://www.analog.com/static/imported-files/data_sheets/AD827.pdf; ComponentLink3Description: Package Specification; ComponentLink3URL: http://www.analog.com/static/imported-files/packages/PKG_PDF/SOIC_WIDE%20%28RW%29/RW_16.pdf
footprint ADI-RW-16_N (SOIC, 16-Leads, Body 10.3x7.5mm, Pitch 1.27mm,IPC Medium Density)
footprint ADI-RW-16_L (SOIC, 16-Leads, Body 10.3x7.5mm, Pitch 1.27mm, IPC High Density)
footprint ADI-RW-16_M (SOIC, 16-Leads, Body 10.3x7.5mm, Pitch 1.27mm, IPC Low Density)
part A pins: 1 -IN 1 (in), 2 +IN 1 (in), 16 OUT 1 (out)
part B pins: 6 +IN 2 (in), 7 -IN 2 (in), 10 OUT 2 (out)
part C pins: 3 NC, 4 -V (power), 5 NC, 8 NC, 9 NC, 11 NC, 12 NC, 13 +V (power), 14 NC, 15 NC

## AD827SE/883B
designator U?
Double Channel Low Power Operational Amplifier, 50 MHz BW, 300 V/us SR, Military, 20-pin LCC (E-20A), Tube; Generic Part Number: AD827; Manufacturer: Analog Devices; PartNumber: AD827SE/883B; Amplifiers Per Package: 2; Input Bias Current: 3.3uA; Input Offset Voltage: 500uV; Iq/Amp: 6.75mA; Small Signal Bandwidth: 50MHz; V Span Max: 36V; V Span Min: 9V; DatasheetVersion: Rev. C; PackageVersion: Rev. C; PackageReference: E-20A; PackageDescription: 20-Pin Terminal Ceramic Leadless Chip Carrier, Body 8.89 x 8.89 mm, Pitch 1.27 mm; Supplier 1: Digi-Key; Supplier Part Number 1: AD827SE/883B-ND; Packing: Tube; Slew Rate: 300V/us; Mounting Technology: Surface Mount; ComponentLink1Description: Manufacturer URL; ComponentLink1URL: http://www.analog.com/en/index.html; ComponentLink2Description: Datasheet; ComponentLink2URL: http://www.analog.com/static/imported-files/data_sheets/AD827.pdf; ComponentLink3Description: Package Specification; ComponentLink3URL: http://www.analog.com/static/imported-files/data_sheets/AD827.pdf
footprint ADI-E-20A_N (LCC, 20-Leads, Body 8.9x8.9mm, Pitch 1.27mm, IPC Medium Density)
footprint ADI-E-20A_L (LCC, 20-Leads, Body 8.9x8.9mm, Pitch 1.27mm, IPC High Density)
footprint ADI-E-20A_M (LCC, 20-Leads, Body 8.9x8.9mm, Pitch 1.27mm, IPC Low Density)
part A pins: 2 OUTPUT A (out), 5 -IN A (in), 7 +IN A (in)
part B pins: 12 +IN B (in), 15 -IN B (in), 17 OUTPUT B (out)
part C pins: 1 NC, 3 NC, 4 NC, 6 NC, 8 NC, 9 NC, 10 -VS (power), 11 NC, 13 NC, 14 NC, 16 NC, 18 NC, 19 NC, 20 +VS (power)

## AD827SQ
designator U?
Double Channel Low Power Operational Amplifier, 50 MHz BW, 300 V/us SR, Military, 8-pin DIP (Q-8), Tube; Generic Part Number: AD827; Manufacturer: Analog Devices; PartNumber: AD827SQ; Amplifiers Per Package: 2; Input Bias Current: 3.3uA; Input Offset Voltage: 500uV; Iq/Amp: 6.75mA; Small Signal Bandwidth: 50MHz; V Span Max: 36V; V Span Min: 9V; DatasheetVersion: Rev. C; PackageReference: Q-8; PackageDescription: 8-Pin Ceramic Dual In-Line Package, Row spacing 7.62 mm, Pitch 2.54 mm; Supplier 1: Digi-Key; Supplier Part Number 1: AD827SQ-ND; Packing: Tube; Slew Rate: 300V/us; Mounting Technology: Through Hole; ComponentLink1Description: Manufacturer URL; ComponentLink1URL: http://www.analog.com/en/index.html; ComponentLink2Description: Datasheet; ComponentLink2URL: http://www.analog.com/static/imported-files/data_sheets/AD827.pdf; ComponentLink3Description: Package Specification; ComponentLink3URL: http://www.analog.com/static/imported-files/packages/3925655241313314758Q_8.pdf
footprint ADI-Q-8 (DIP, 8-Leads, Body 10.29x6.73mm, Pitch 2.54mm)
pins on every part: 4 -V (power), 8 +V (power)
part A pins: 1 OUT 1 (out), 2 -IN 1 (in), 3 +IN 1 (in)
part B pins: 5 +IN 2 (in), 6 -IN 2 (in), 7 OUT 2 (out)

## AD827SQ/883B
designator U?
Double Channel Low Power Operational Amplifier, 50 MHz BW, 300 V/us SR, Military, 8-pin DIP (Q-8), Tube; Generic Part Number: AD827; Manufacturer: Analog Devices; PartNumber: AD827SQ/883B; Amplifiers Per Package: 2; Input Bias Current: 3.3uA; Input Offset Voltage: 500uV; Iq/Amp: 6.75mA; Small Signal Bandwidth: 50MHz; V Span Max: 36V; V Span Min: 9V; DatasheetVersion: Rev. C; PackageReference: Q-8; PackageDescription: 8-Pin Ceramic Dual In-Line Package, Row spacing 7.62 mm, Pitch 2.54 mm; Supplier 1: Digi-Key; Supplier Part Number 1: AD827SQ/883B-ND; Packing: Tube; Slew Rate: 300V/us; Mounting Technology: Through Hole; ComponentLink1Description: Manufacturer URL; ComponentLink1URL: http://www.analog.com/en/index.html; ComponentLink2Description: Datasheet; ComponentLink2URL: http://www.analog.com/static/imported-files/data_sheets/AD827.pdf; ComponentLink3Description: Package Specification; ComponentLink3URL: http://www.analog.com/static/imported-files/packages/3925655241313314758Q_8.pdf
footprint ADI-Q-8 (DIP, 8-Leads, Body 10.29x6.73mm, Pitch 2.54mm)
pins on every part: 4 -V (power), 8 +V (power)
part A pins: 1 OUT 1 (out), 2 -IN 1 (in), 3 +IN 1 (in)
part B pins: 5 +IN 2 (in), 6 -IN 2 (in), 7 OUT 2 (out)

## AD828ANZ
designator U?
Double Channel Low Power Operational Amplifier, 130 MHz BW, 450 V/us SR, Industrial, 8-pin DIP (N-8), Tube; Generic Part Number: AD828; Manufacturer: Analog Devices; PartNumber: AD828ANZ; Amplifiers Per Package: 2; Input Bias Current: 3.3uA; Input Offset Voltage: 500uV; Iq/Amp: 7.5mA; Small Signal Bandwidth: 130MHz; V Span Max: 36V; V Span Min: 5V; DatasheetVersion: Rev. C; PackageVersion: 070606-A; PackageReference: N-8; PackageDescription: 8-Pin Plastic Dual In-Line Package, Row spacing 7.62 mm, Pitch 2.54 mm; Supplier 1: Digi-Key; Supplier Part Number 1: AD828ANZ-ND; Supplier 2: Farnell; Supplier Part Number 2: 1079417; Supplier 3: Newark; Supplier Part Number 3: 59K6535; Slew Rate: 450V/us; Mounting Technology: Through Hole; Code_JEDEC: MS-001; ComponentLink1Description: Manufacturer URL; ComponentLink1URL: http://www.analog.com/en/index.html; ComponentLink2Description: Datasheet; ComponentLink2URL: http://www.analog.com/static/imported-files/data_sheets/AD828.pdf; ComponentLink3Description: Package Specification; ComponentLink3URL: http:/www.analog.com/static/imported-files/packages/PKG_PDF/PDIP(N)/N_8.pdf
footprint ADI-N-8 (DIP, 8-Leads, Body 9.59x6.6mm, Pitch 2.54mm)
pins on every part: 4 -V (power), 8 +V (power)
part A pins: 1 OUT 1 (out), 2 -IN 1 (in), 3 +IN 1 (in)
part B pins: 5 +IN 2 (in), 6 -IN 2 (in), 7 OUT 2 (out)

## AD828AR
designator U?
Double Channel Low Power Operational Amplifier, 130 MHz BW, 450 V/us SR, Industrial, 8-pin SOIC (R-8), Tube; Generic Part Number: AD828; Manufacturer: Analog Devices; PartNumber: AD828AR; Amplifiers Per Package: 2; Input Bias Current: 3.3uA; Input Offset Voltage: 500uV; Iq/Amp: 7.5mA; Small Signal Bandwidth: 130MHz; V Span Max: 36V; V Span Min: 5V; DatasheetVersion: Rev. C; PackageVersion: 060506-A; PackageReference: R-8; PackageDescription: 8-Pin Standard Small Outline Package, Body 3.9 x 4.9 mm, Pitch 1.27 mm; Supplier 1: Digi-Key; Supplier Part Number 1: AD828AR-ND; Slew Rate: 450V/us; Mounting Technology: Surface Mount; Code_JEDEC: MS-012-AA; ComponentLink1Description: Manufacturer URL; ComponentLink1URL: http://www.analog.com/en/index.html; ComponentLink2Description: Datasheet; ComponentLink2URL: http://www.analog.com/static/imported-files/data_sheets/AD828.pdf; ComponentLink3Description: Package Specification; ComponentLink3URL: http://www.analog.com/static/imported-files/packages/PKG_PDF/SOIC_Narrow%20(R)/R_8.pdf
footprint ADI-R-8_N (SOIC, 8-Leads, Body 4.9x3.9mm, Pitch 1.27mm, IPC Medium Density)
footprint ADI-R-8_L (SOIC, 8-Leads, Body 4.9x3.9mm, Pitch 1.27mm, IPC High Density)
footprint ADI-R-8_M (SOIC, 8-Leads, Body 4.9x3.9mm, Pitch 1.27mm, IPC Low Density)
pins on every part: 4 -V (power), 8 +V (power)
part A pins: 1 OUT 1 (out), 2 -IN 1 (in), 3 +IN 1 (in)
part B pins: 5 +IN 2 (in), 6 -IN 2 (in), 7 OUT 2 (out)

## AD828AR-REEL
designator U?
Double Channel Low Power Operational Amplifier, 130 MHz BW, 450 V/us SR, Industrial, 8-pin SOIC (R-8), Reel; Generic Part Number: AD828; Manufacturer: Analog Devices; PartNumber: AD828AR-REEL; Amplifiers Per Package: 2; Input Bias Current: 3.3uA; Input Offset Voltage: 500uV; Iq/Amp: 7.5mA; Small Signal Bandwidth: 130MHz; V Span Max: 36V; V Span Min: 5V; DatasheetVersion: Rev. C; PackageVersion: 060506-A; PackageReference: R-8; PackageDescription: 8-Pin Standard Small Outline Package, Body 3.9 x 4.9 mm, Pitch 1.27 mm; Supplier 1: Digi-Key; Supplier Part Number 1: AD828AR-REEL-ND; Supplier 2: Newark; Supplier Part Number 2: 09B6527; Slew Rate: 450V/us; Mounting Technology: Surface Mount; Code_JEDEC: MS-012-AA; ComponentLink1Description: Manufacturer URL; ComponentLink1URL: http://www.analog.com/en/index.html; ComponentLink2Description: Datasheet; ComponentLink2URL: http://www.analog.com/static/imported-files/data_sheets/AD828.pdf; ComponentLink3Description: Package Specification; ComponentLink3URL: http://www.analog.com/static/imported-files/packages/PKG_PDF/SOIC_Narrow%20(R)/R_8.pdf
footprint ADI-R-8_N (SOIC, 8-Leads, Body 4.9x3.9mm, Pitch 1.27mm, IPC Medium Density)
footprint ADI-R-8_L (SOIC, 8-Leads, Body 4.9x3.9mm, Pitch 1.27mm, IPC High Density)
footprint ADI-R-8_M (SOIC, 8-Leads, Body 4.9x3.9mm, Pitch 1.27mm, IPC Low Density)
pins on every part: 4 -V (power), 8 +V (power)
part A pins: 1 OUT 1 (out), 2 -IN 1 (in), 3 +IN 1 (in)
part B pins: 5 +IN 2 (in), 6 -IN 2 (in), 7 OUT 2 (out)

## AD828AR-REEL7
designator U?
Double Channel Low Power Operational Amplifier, 130 MHz BW, 450 V/us SR, Industrial, 8-pin SOIC (R-8), Reel; Generic Part Number: AD828; Manufacturer: Analog Devices; PartNumber: AD828AR-REEL7; Amplifiers Per Package: 2; Input Bias Current: 3.3uA; Input Offset Voltage: 500uV; Iq/Amp: 7.5mA; Small Signal Bandwidth: 130MHz; V Span Max: 36V; V Span Min: 5V; DatasheetVersion: Rev. C; PackageVersion: 060506-A; PackageReference: R-8; PackageDescription: 8-Pin Standard Small Outline Package, Body 3.9 x 4.9 mm, Pitch 1.27 mm; Supplier 1: Digi-Key; Supplier Part Number 1: AD828AR-REEL7-ND; Slew Rate: 450V/us; Mounting Technology: Surface Mount; Code_JEDEC: MS-012-AA; ComponentLink1Description: Manufacturer URL; ComponentLink1URL: http://www.analog.com/en/index.html; ComponentLink2Description: Datasheet; ComponentLink2URL: http://www.analog.com/static/imported-files/data_sheets/AD828.pdf; ComponentLink3Description: Package Specification; ComponentLink3URL: http://www.analog.com/static/imported-files/packages/PKG_PDF/SOIC_Narrow%20(R)/R_8.pdf
footprint ADI-R-8_N (SOIC, 8-Leads, Body 4.9x3.9mm, Pitch 1.27mm, IPC Medium Density)
footprint ADI-R-8_L (SOIC, 8-Leads, Body 4.9x3.9mm, Pitch 1.27mm, IPC High Density)
footprint ADI-R-8_M (SOIC, 8-Leads, Body 4.9x3.9mm, Pitch 1.27mm, IPC Low Density)
pins on every part: 4 -V (power), 8 +V (power)
part A pins: 1 OUT 1 (out), 2 -IN 1 (in), 3 +IN 1 (in)
part B pins: 5 +IN 2 (in), 6 -IN 2 (in), 7 OUT 2 (out)